# Altium footprint library JoyStick.PcbLib: 2 footprints
Each footprint in its own frame and in the unit in brackets; x right, y up, seen from the top. Pads: shape width x height; smd on the part's side, far side on the other; paste and mask are expansions set on the pad; w line width, h text height; cw(c..) or ccw(c..) is an arc to the next point about the centre after c.
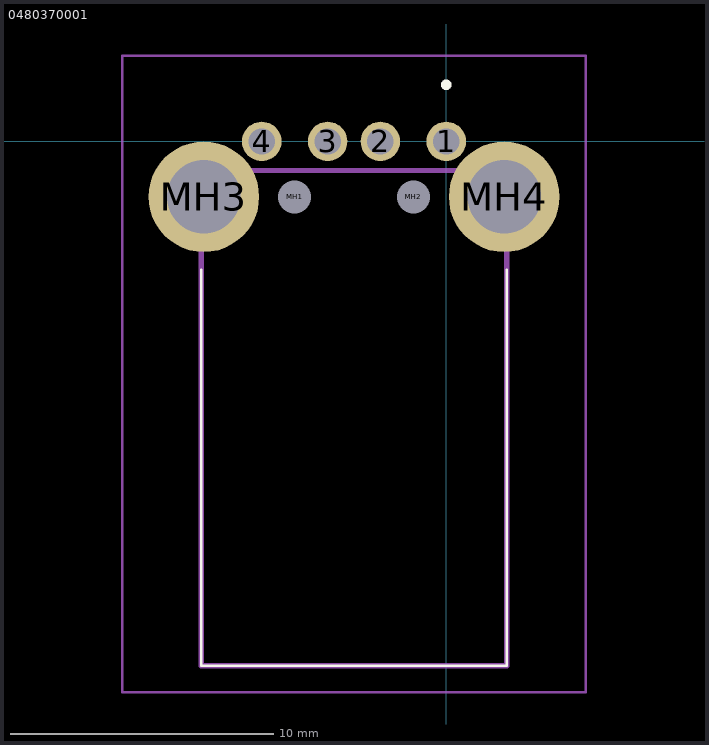
[diagram p0: the footprints below, top view; thin cyan lines are the x and y axes]

## 0480370001 [mm]
pads (8):
  round 1.5 hole 1: 1(0,0) 2(-2.5,0) 3(-4.5,0) 4(-7,0)
  round 0.625 hole 1.25 unplated: MH1(-5.75,-2.1) MH2(-1.25,-2.1)
  round 4.2 hole 2.8: MH3(-9.2,-2.1) MH4(2.2,-2.1)
Top Overlay:
  lines w0.1: -9.3,-4.87 -9.3,-19.9 2.2,-19.9 2.3,-19.9 2.3,-4.87
  lines w0.2: 0,2.05 cw(c0,2.15) 0,2.25 cw(c0,2.15) 0,2.05
Mechanical 13:
  lines w0.2: -9.3,-19.9 -9.3,-1.1 2.3,-1.1 2.3,-19.9 -9.3,-19.9
Mechanical 15:
  lines w0.1: -12.3,-20.9 -12.3,3.25 5.3,3.25 5.3,-20.9 -12.3,-20.9
3D body "0480370001.stp": height 4.7, standoff -5, extent -10.49,-19.9 3.5,0.399

## PCBComponent_1 [mm]